# Altium schematic symbol library Schlib1.SchLib: 1 symbol
Pins are listed as number, name and electrical type; pins without a type are passive.

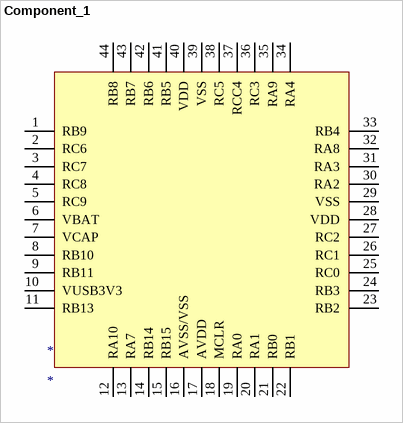
[diagram p0: symbol Component_1]

## Component_1
designator *
footprint PcbLib1.PcbLib* (Footprint not found)
pins: 1 RB9, 2 RC6, 3 RC7, 4 RC8, 5 RC9, 6 VBAT, 7 VCAP, 8 RB10, 9 RB11, 10 VUSB3V3, 11 RB13, 12 RA10, 13 RA7, 14 RB14, 15 RB15, 16 AVSS/VSS, 17 AVDD, 18 MCLR, 19 RA0, 20 RA1, 21 RB0, 22 RB1, 23 RB2, 24 RB3, 25 RC0, 26 RC1, 27 RC2, 28 VDD, 29 VSS, 30 RA2, 31 RA3, 32 RA8, 33 RB4, 34 RA4, 35 RA9, 36 RC3, 37 RCC4, 38 RC5, 39 VSS, 40 VDD, 41 RB5, 42 RB6, 43 RB7, 44 RB8